# Altium footprint library Power Modules.PcbLib: 1 footprints
Each footprint in its own frame and in the unit in brackets; x right, y up, seen from the top. Pads: shape width x height; smd on the part's side, far side on the other; paste and mask are expansions set on the pad; w line width, h text height; cw(c..) or ccw(c..) is an arc to the next point about the centre after c.
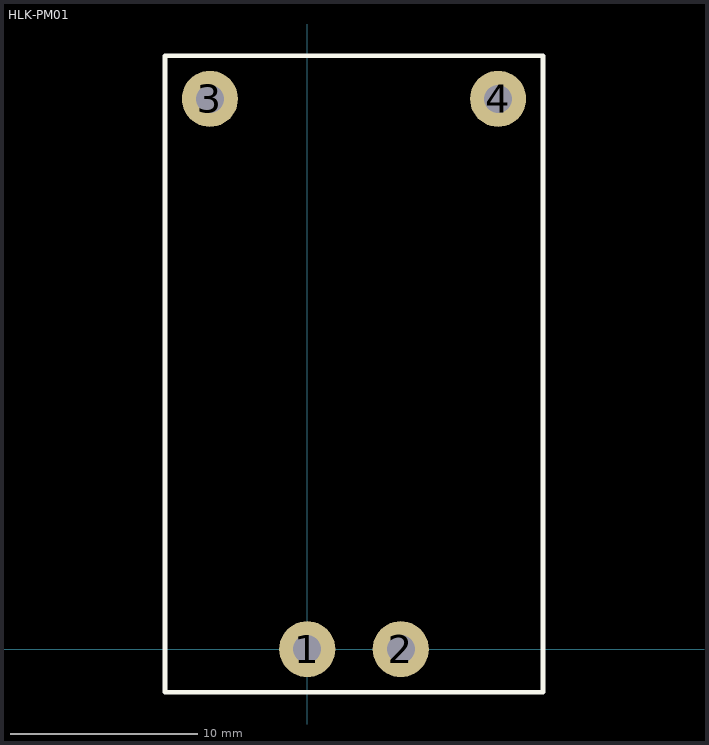
[diagram p0: the footprint, top view; thin cyan lines are the x and y axes]

## HLK-PM01 [mm]
pads (4):
  round 3 hole 1.5: 1(0,0) 2(5,0) 3(-5.2,29.4) 4(10.2,29.4)
Top Overlay:
  lines w0.254: -7.6,-2.3 -7.6,31.7 12.6,31.7 12.6,-2.3 -7.6,-2.3
3D body "User Library-HLK-PM01.step": height 15.3, standoff -4.8, extent -7.6,-2.3 12.6,31.7